# EAGLE library part MCP2200 (library DAQ_24bit_Hardware)
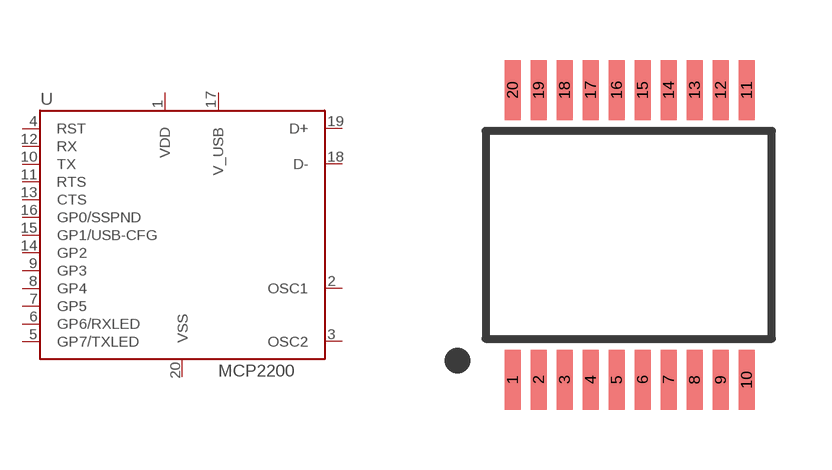
[diagram p0: symbol with the pads of SSOP20; footprint SSOP20]

Designator prefix U

## MCP2200  [SSOP20]
1  VDD  pwr
2  OSC1
3  OSC2
4  RST
5  GP7/TXLED
6  GP6/RXLED
7  GP5
8  GP4
9  GP3
10  TX
11  RTS
12  RX
13  CTS
14  GP2
15  GP1/USB-CFG
16  GP0/SSPND
17  V_USB  pwr
18  D-
19  D+
20  VSS  pwr

## Footprint SSOP20 (pad centres in mm)
smd 0.4 x 1.5: 1 -2.955,-3.625; 2 -2.305,-3.625; 3 -1.655,-3.625; 4 -1.005,-3.625; 5 -0.355,-3.625; 6 0.295,-3.625; 7 0.945,-3.625; 8 1.595,-3.625; 9 2.245,-3.625; 10 2.895,-3.625; 11 2.895,3.625; 12 2.245,3.625; 13 1.595,3.625; 14 0.945,3.625; 15 0.295,3.625; 16 -0.355,3.625; 17 -1.005,3.625; 18 -1.655,3.625; 19 -2.305,3.625; 20 -2.955,3.625